# Altium footprint library DO.PcbLib: 1 footprints
Each footprint in its own frame and in the unit in brackets; x right, y up, seen from the top. Pads: shape width x height; smd on the part's side, far side on the other; paste and mask are expansions set on the pad; w line width, h text height; cw(c..) or ccw(c..) is an arc to the next point about the centre after c.
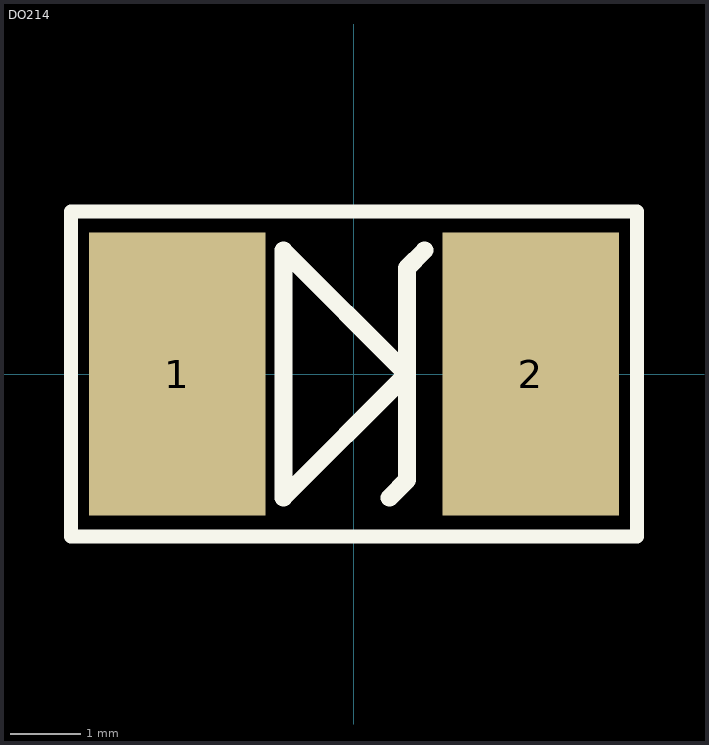
[diagram p0: the footprint, top view; thin cyan lines are the x and y axes]

## DO214 [mm] "Diode Body 6 x 4 mm (LxW typ)"
height 3.5
pads (2):
  rect 2.5x4 smd: 1(-2.5,0) 2(2.5,0)
Top Overlay:
  lines w0.2: -4,-2.3 -4,2.3 4,2.3 4,-2.3 -4,-2.3
  lines w0.254: 0.5,-1.75 0.75,-1.5 0.75,1.5 1,1.75 ; -1,-1.75 0.75,0 -1,1.75 -1,-1.75
3D body "User Library-S1G-1.STEP": height 2.7, standoff 0, extent -2.8,-1.5 2.8,1.45